# Altium integrated library Solder_Bridge.IntLib: 2 symbols
Pins are listed as number, name and electrical type; pins without a type are passive.

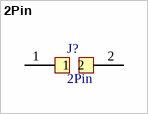
[diagram p0: symbol 2Pin]

## 2Pin
designator J?
footprint 2Pin
pins: 1, 2


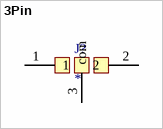
[diagram p1: symbol 3Pin]

## 3Pin
designator J?
footprint Solder_Bridge
pins: 1, 2, 3 com